# Altium footprint library 5134.64-6.PcbLib: 1 footprints
Each footprint in its own frame and in the unit in brackets; x right, y up, seen from the top. Pads: shape width x height; smd on the part's side, far side on the other; paste and mask are expansions set on the pad; w line width, h text height; cw(c..) or ccw(c..) is an arc to the next point about the centre after c.
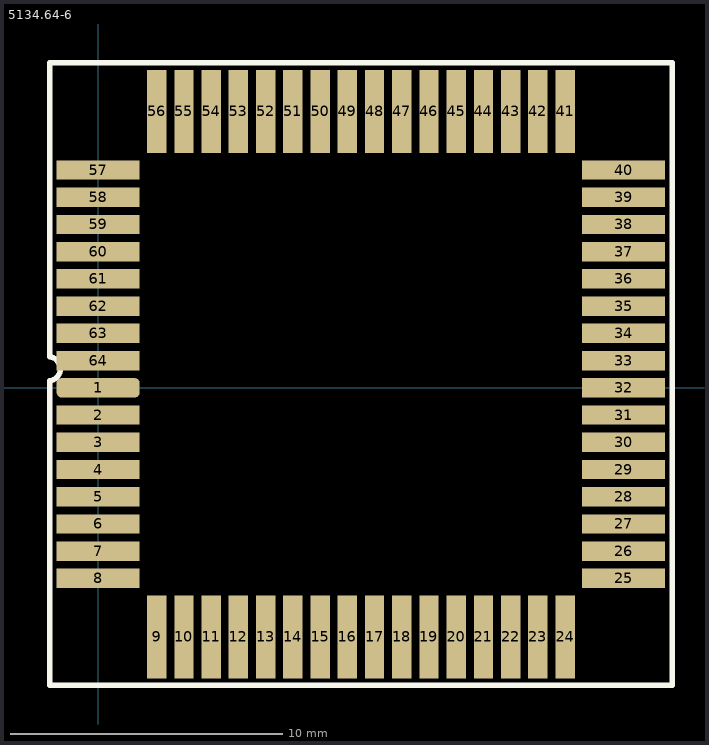
[diagram p0: the footprint, top view; thin cyan lines are the x and y axes]

## 5134.64-6 [mil]
pads (64):
  rrect50% 120x28 smd: 1(0.04,0.16)
  rect 120x28 smd: 2(0.04,-39.21) 3(0.04,-78.58) 4(0.04,-117.95) 5(0.04,-157.32) 6(0.04,-196.69) 7(0.04,-236.06) 8(0.04,-275.43) 25(759.88,-275.43) 26(759.88,-236.06) 27(759.88,-196.69) 28(759.88,-157.32) 29(759.88,-117.95) 30(759.88,-78.58) 31(759.88,-39.21) 32(759.88,0.16) 33(759.88,39.53) 34(759.88,78.9) 35(759.88,118.27) 36(759.88,157.64) 37(759.88,197.01) 38(759.88,236.38) 39(759.88,275.75) 40(759.88,315.12) 57(0.04,315.12) 58(0.04,275.75) 59(0.04,236.38) 60(0.04,197.01) 61(0.04,157.64) 62(0.04,118.27) 63(0.04,78.9) 64(0.04,39.53)
  rect 28x120 smd: 9(84.69,-360.08) 10(124.06,-360.08) 11(163.43,-360.08) 12(202.8,-360.08) 13(242.17,-360.08) 14(281.54,-360.08) 15(320.91,-360.08) 16(360.28,-360.08) 17(399.65,-360.08) 18(439.02,-360.08) 19(478.39,-360.08) 20(517.76,-360.08) 21(557.13,-360.08) 22(596.5,-360.08) 23(635.87,-360.08) 24(675.24,-360.08) 41(675.24,399.76) 42(635.87,399.76) 43(596.5,399.76) 44(557.13,399.76) 45(517.76,399.76) 46(478.39,399.76) 47(439.02,399.76) 48(399.65,399.76) 49(360.28,399.76) 50(320.91,399.76) 51(281.54,399.76) 52(242.17,399.76) 53(202.8,399.76) 54(163.43,399.76) 55(124.06,399.76) 56(84.69,399.76)
Top Overlay:
  lines w7.87: -54.96,25.16 ccw(c-72.46,27.66) -69.96,45.16 -69.96,470.16 830.04,470.16 830.04,-429.84 -69.96,-429.84 -69.96,-204.84 -69.96,10.16 ccw(c-72.46,27.66) -54.96,30.16
3D body "5134.64-6.STEP": height 133.98, standoff 0.12, extent -49.21,-409.45 809.06,448.82